# Altium schematic symbol library Schlib1.SchLib: 4 symbols
Pins are listed as number, name and electrical type; pins without a type are passive.

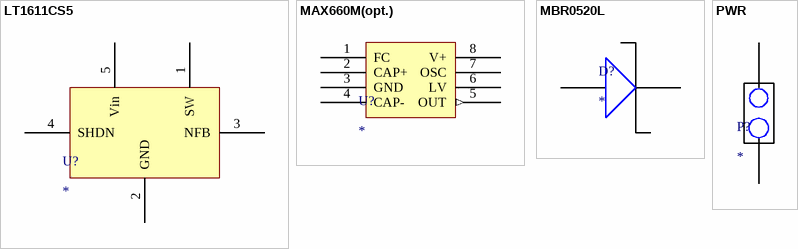
[diagram p0: symbols LT1611CS5 to PWR]

## LT1611CS5
designator U?
footprint Default (Footprint not found)
footprint SOT23-6_N (Footprint not found)
footprint SOT23-5
pins: 1 SW, 2 GND (power), 3 NFB, 4 SHDN, 5 Vin

## MAX660M(opt.)
designator U?
footprint Default (Footprint not found)
footprint MAX660
footprint SO-8
pins: 1 FC, 2 CAP+, 3 GND (power), 4 CAP-, 5 OUT (out), 6 LV, 7 OSC, 8 V+ (power)

## MBR0520L
designator D?
pins: 1 I, 2 I

## PWR
designator P?
footprint RAD-0.1 (Radial Cap, Thru-Hole; 2 Leads; 0.1 in Pin Spacing)
pins: 3 I, 4 I